# Altium integrated library ERJU01J183C.IntLib: 1 symbol
Pins are listed as number, name and electrical type; pins without a type are passive.

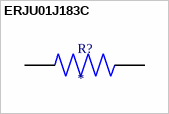
[diagram p0: symbol ERJU01J183C]

## ERJU01J183C
designator R?
0201 anti-sulfurated resistor 0201 Anti-Sulfurated; MF: Panasonic; MP: ERJ-U01J183C; Check_prices: https://www.snapeda.com/parts/ERJ-U01J183C/Panasonic/view-part/?ref=eda; SnapEDA_Link: https://www.snapeda.com/parts/ERJ-U01J183C/Panasonic/view-part/?ref=snap; Availability: In Stock; Purchase-URL: https://pricing.snapeda.com/search/part/ERJ-U01J183C/?ref=eda; Package: 0603-2 Panasonic; Price: None; Value: *
footprint RES_ERJU01J183C
pins: 1, 2